# EAGLE library part NA5W-K (library yb-library)
Relais Takamisawa NA5W-K
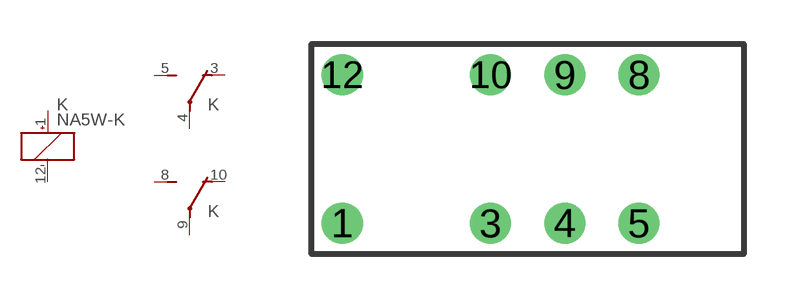
[diagram p1: symbol with the pads of HX; footprint HX]

Designator prefix K; gates 1=K+- 2=U 3=U

## NA5W-K  [HX]
1  1:+  pas
3  2:O  pas
4  2:P  pas
5  2:S  pas
8  3:S  pas
9  3:P  pas
10  3:O  pas
12  1:-  pas

## Footprint HX (pad centres in mm)
Compact & Slim 2 Form C Relay NAiS
drill 0.9: 1 -6.35,-2.54; 3 -1.27,-2.54; 4 1.27,-2.54; 5 3.81,-2.54; 8 3.81,2.54; 9 1.27,2.54; 10 -1.27,2.54; 12 -6.35,2.54